# Altium schematic symbol library PCM12SMTBR.SchLib: 1 symbol
Pins are listed as number, name and electrical type; pins without a type are passive.

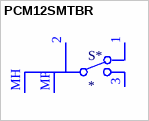
[diagram p0: symbol PCM12SMTBR]

## PCM12SMTBR
designator S*
footprint PCM12SMTBR
pins: 1, 2, 3, MH MP, MP 5